# Altium footprint library Dual-In-Line Package.PcbLib: 149 footprints (part 7 of 10)
Each footprint in its own frame and in the unit in brackets; x right, y up, seen from the top. Pads: shape width x height; smd on the part's side, far side on the other; paste and mask are expansions set on the pad; w line width, h text height; cw(c..) or ccw(c..) is an arc to the next point about the centre after c.
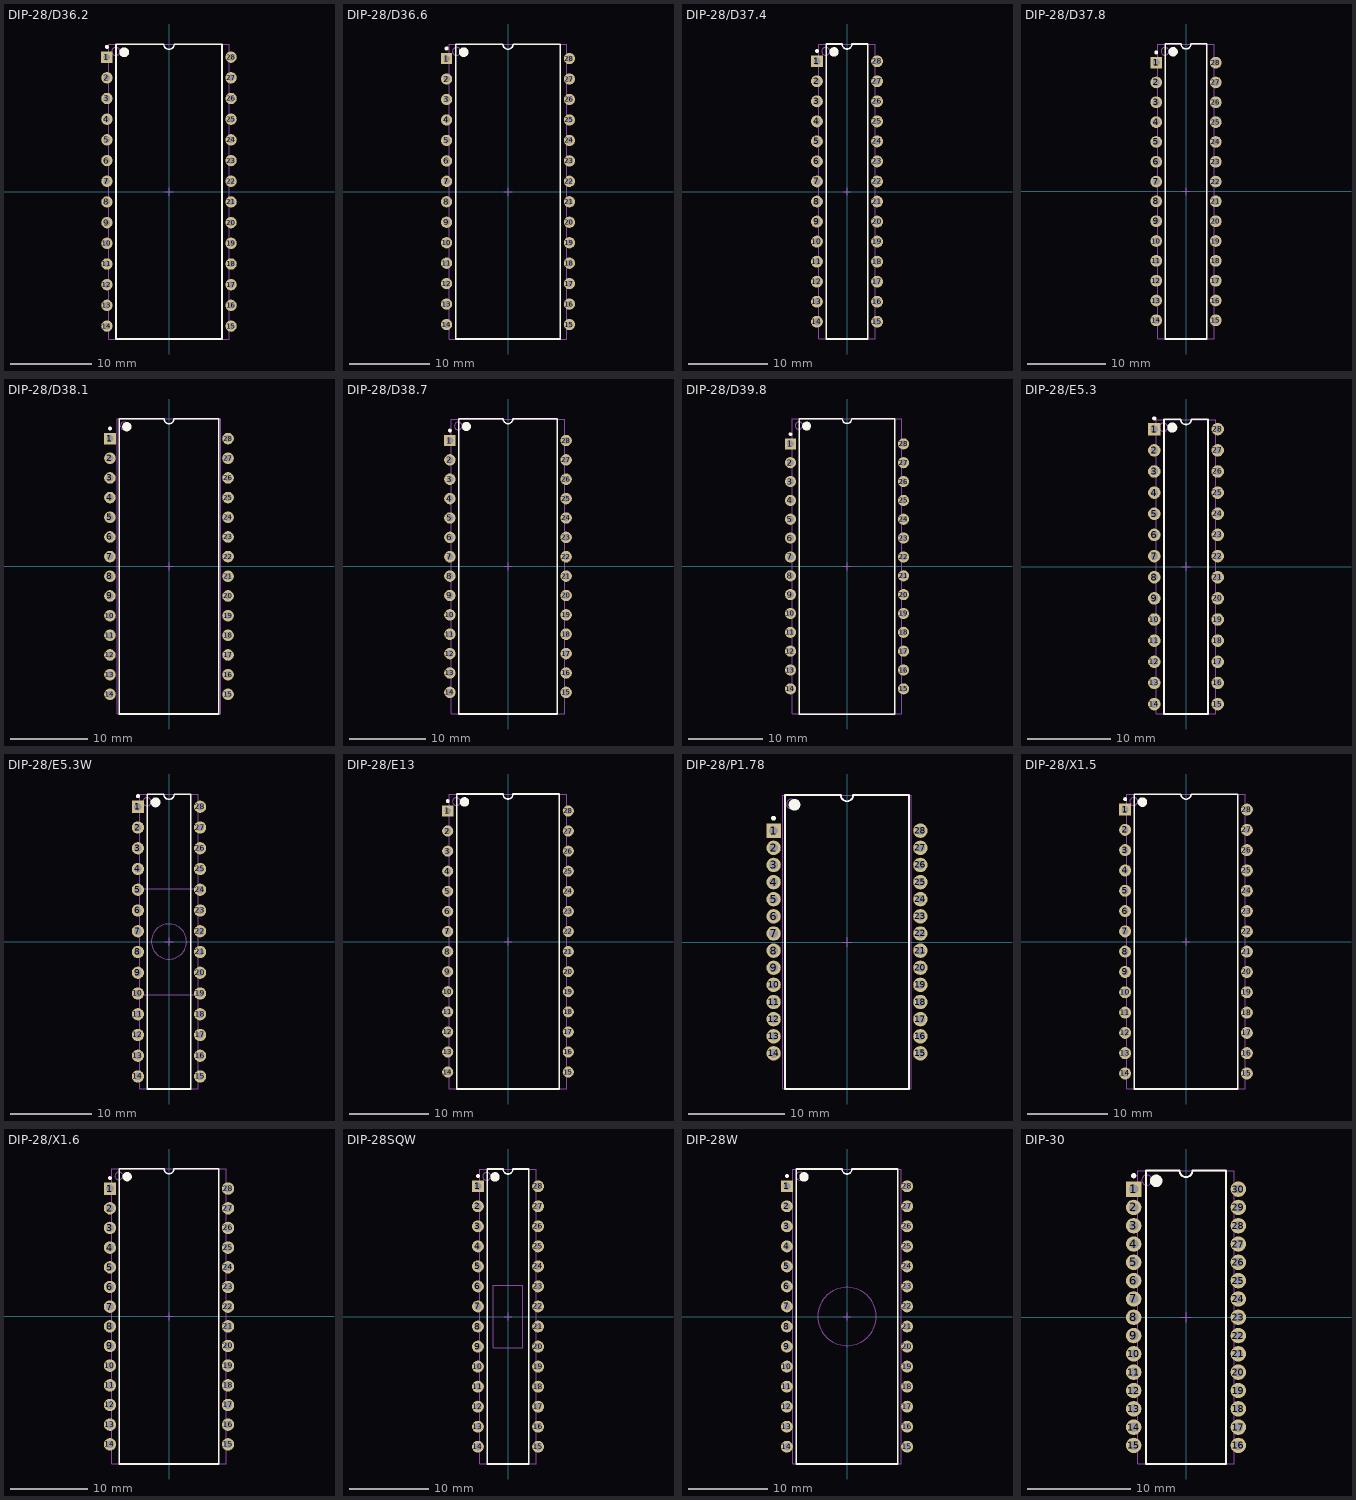
[diagram p6: the footprints below, top view; thin cyan lines are the x and y axes]

## DIP-28/D36.2 [mm] "DIP, 28-Pin, Row Spacing 15.24 mm, Pitch 2.54 mm"
height 4.5
pads (28):
  rect 1.4x1.4 hole 0.8: 1(-7.62,16.51)
  round 1.4 hole 0.8: 2(-7.62,13.97) 3(-7.62,11.43) 4(-7.62,8.89) 5(-7.62,6.35) 6(-7.62,3.81) 7(-7.62,1.27) 8(-7.62,-1.27) 9(-7.62,-3.81) 10(-7.62,-6.35) 11(-7.62,-8.89) 12(-7.62,-11.43) 13(-7.62,-13.97) 14(-7.62,-16.51) 15(7.62,-16.51) 16(7.62,-13.97) 17(7.62,-11.43) 18(7.62,-8.89) 19(7.62,-6.35) 20(7.62,-3.81) 21(7.62,-1.27) 22(7.62,1.27) 23(7.62,3.81) 24(7.62,6.35) 25(7.62,8.89) 26(7.62,11.43) 27(7.62,13.97) 28(7.62,16.51)
Top Overlay:
  circle w0.6: c-5.5,17.1 r0.3
  circle w0.25: c-7.62,17.76 r0.125
  lines w0.2: -6.5,-18.1 6.5,-18.1 6.5,18.1 0.635,18.1 cw(c0,18.1) -0.635,18.1 -6.5,18.1 -6.5,-18.1
Mechanical 13:
  circle w0.1: c-6.525,17.2 r0.5
  lines w0.1: -7.425,-18.1 7.425,-18.1 7.425,18.1 -7.425,18.1 -7.425,-18.1
Mechanical 15:
  lines w0.1: -0.5,0 0.5,0 ; 0,-0.5 0,0.5
3D body: height 4.5, standoff 0, extent -7.425,-18.1 7.425,18.1

## DIP-28/D36.6 [mm] "DIP, 28-Pin, Row Spacing 15.24 mm, Pitch 2.54 mm"
height 5.7
pads (28):
  rect 1.4x1.4 hole 0.8: 1(-7.62,16.51)
  round 1.4 hole 0.8: 2(-7.62,13.97) 3(-7.62,11.43) 4(-7.62,8.89) 5(-7.62,6.35) 6(-7.62,3.81) 7(-7.62,1.27) 8(-7.62,-1.27) 9(-7.62,-3.81) 10(-7.62,-6.35) 11(-7.62,-8.89) 12(-7.62,-11.43) 13(-7.62,-13.97) 14(-7.62,-16.51) 15(7.62,-16.51) 16(7.62,-13.97) 17(7.62,-11.43) 18(7.62,-8.89) 19(7.62,-6.35) 20(7.62,-3.81) 21(7.62,-1.27) 22(7.62,1.27) 23(7.62,3.81) 24(7.62,6.35) 25(7.62,8.89) 26(7.62,11.43) 27(7.62,13.97) 28(7.62,16.51)
Top Overlay:
  circle w0.25: c-7.62,17.76 r0.125
  circle w0.6: c-5.5,17.3 r0.3
  lines w0.2: -6.5,-18.3 -6.5,18.3 -0.635,18.3 ccw(c0,18.3) 0.635,18.3 6.5,18.3 6.5,-18.3 -6.5,-18.3
Mechanical 13:
  circle w0.1: c-6.4,17.4 r0.5
  lines w0.1: -7.3,-18.3 -7.3,18.3 7.3,18.3 7.3,-18.3 -7.3,-18.3
Mechanical 15:
  lines w0.1: -0.5,0 0.5,0 ; 0,-0.5 0,0.5
3D body: height 5.7, standoff 0, extent -7.3,-18.3 7.3,18.3

## DIP-28/D37.4 [mm] "28-Pin Ceramic Dual In-Line Package (CerDIP)"
height 5.08
pads (28):
  rect 1.5x1.5 hole 0.9: 1(-3.81,16.51)
  round 1.5 hole 0.9: 2(-3.81,13.97) 3(-3.81,11.43) 4(-3.81,8.89) 5(-3.81,6.35) 6(-3.81,3.81) 7(-3.81,1.27) 8(-3.81,-1.27) 9(-3.81,-3.81) 10(-3.81,-6.35) 11(-3.81,-8.89) 12(-3.81,-11.43) 13(-3.81,-13.97) 14(-3.81,-16.51) 15(3.81,-16.51) 16(3.81,-13.97) 17(3.81,-11.43) 18(3.81,-8.89) 19(3.81,-6.35) 20(3.81,-3.81) 21(3.81,-1.27) 22(3.81,1.27) 23(3.81,3.81) 24(3.81,6.35) 25(3.81,8.89) 26(3.81,11.43) 27(3.81,13.97) 28(3.81,16.51)
Top Overlay:
  circle w0.25: c-3.81,17.81 r0.125
  circle w0.6: c-1.65,17.7 r0.3
  lines w0.2: -2.65,-18.7 -2.65,18.7 -0.635,18.7 ccw(c0,18.7) 0.635,18.7 2.65,18.7 2.65,-18.7 -2.65,-18.7
Mechanical 13:
  circle w0.1: c-2.7,17.775 r0.5
  lines w0.1: -3.6,-18.675 -3.6,18.675 3.6,18.675 3.6,-18.675 -3.6,-18.675
Mechanical 15:
  lines w0.1: -0.5,0 0.5,0 ; 0,-0.5 0,0.5
3D body: height 5.08, standoff 0, extent -3.6,-18.675 3.6,18.675

## DIP-28/D37.8 [mm] "CerDIP, 28-Pin, Row Spacing 7.62 mm, Pitch 2.54 mm"
height 5.08
pads (28):
  rect 1.5x1.5 hole 0.9: 1(-3.81,16.51)
  round 1.5 hole 0.9: 2(-3.81,13.97) 3(-3.81,11.43) 4(-3.81,8.89) 5(-3.81,6.35) 6(-3.81,3.81) 7(-3.81,1.27) 8(-3.81,-1.27) 9(-3.81,-3.81) 10(-3.81,-6.35) 11(-3.81,-8.89) 12(-3.81,-11.43) 13(-3.81,-13.97) 14(-3.81,-16.51) 15(3.81,-16.51) 16(3.81,-13.97) 17(3.81,-11.43) 18(3.81,-8.89) 19(3.81,-6.35) 20(3.81,-3.81) 21(3.81,-1.27) 22(3.81,1.27) 23(3.81,3.81) 24(3.81,6.35) 25(3.81,8.89) 26(3.81,11.43) 27(3.81,13.97) 28(3.81,16.51)
Top Overlay:
  circle w0.25: c-3.81,17.81 r0.125
  circle w0.6: c-1.65,17.9 r0.3
  lines w0.2: -2.65,-18.9 -2.65,18.9 -0.635,18.9 ccw(c0,18.9) 0.635,18.9 2.65,18.9 2.65,-18.9 -2.65,-18.9
Mechanical 13:
  circle w0.1: c-2.7,17.95 r0.5
  lines w0.1: -3.6,-18.85 -3.6,18.85 3.6,18.85 3.6,-18.85 -3.6,-18.85
Mechanical 15:
  lines w0.1: -0.5,0 0.5,0 ; 0,-0.5 0,0.5
3D body: height 5.08, standoff 0, extent -3.6,-18.85 3.6,18.85

## DIP-28/D38.1 [mm] "DIP, 28-Pin, Row Spacing 15.24 mm, Pitch 2.54 mm"
height 5.08
pads (28):
  rect 1.5x1.5 hole 0.9: 1(-7.62,16.51)
  round 1.5 hole 0.9: 2(-7.62,13.97) 3(-7.62,11.43) 4(-7.62,8.89) 5(-7.62,6.35) 6(-7.62,3.81) 7(-7.62,1.27) 8(-7.62,-1.27) 9(-7.62,-3.81) 10(-7.62,-6.35) 11(-7.62,-8.89) 12(-7.62,-11.43) 13(-7.62,-13.97) 14(-7.62,-16.51) 15(7.62,-16.51) 16(7.62,-13.97) 17(7.62,-11.43) 18(7.62,-8.89) 19(7.62,-6.35) 20(7.62,-3.81) 21(7.62,-1.27) 22(7.62,1.27) 23(7.62,3.81) 24(7.62,6.35) 25(7.62,8.89) 26(7.62,11.43) 27(7.62,13.97) 28(7.62,16.51)
Top Overlay:
  circle w0.6: c-5.45,18.05 r0.3
  circle w0.25: c-7.62,17.81 r0.125
  lines w0.2: -6.45,-19.05 6.45,-19.05 6.45,19.05 0.635,19.05 cw(c0,19.05) -0.635,19.05 -6.45,19.05 -6.45,-19.05
Mechanical 13:
  circle w0.1: c-5.775,18.15 r0.5
  lines w0.1: -6.675,-19.05 6.675,-19.05 6.675,19.05 -6.675,19.05 -6.675,-19.05
Mechanical 15:
  lines w0.1: -0.5,0 0.5,0 ; 0,-0.5 0,0.5
3D body: height 5.08, standoff 0, extent -6.675,-19.05 6.675,19.05

## DIP-28/D38.7 [mm] "DIP, 28-Pin, Row Spacing 15.24 mm, Pitch 2.54 mm"
height 4.8
pads (28):
  rect 1.5x1.5 hole 0.9: 1(-7.62,16.51)
  round 1.5 hole 0.9: 2(-7.62,13.97) 3(-7.62,11.43) 4(-7.62,8.89) 5(-7.62,6.35) 6(-7.62,3.81) 7(-7.62,1.27) 8(-7.62,-1.27) 9(-7.62,-3.81) 10(-7.62,-6.35) 11(-7.62,-8.89) 12(-7.62,-11.43) 13(-7.62,-13.97) 14(-7.62,-16.51) 15(7.62,-16.51) 16(7.62,-13.97) 17(7.62,-11.43) 18(7.62,-8.89) 19(7.62,-6.35) 20(7.62,-3.81) 21(7.62,-1.27) 22(7.62,1.27) 23(7.62,3.81) 24(7.62,6.35) 25(7.62,8.89) 26(7.62,11.43) 27(7.62,13.97) 28(7.62,16.51)
Top Overlay:
  circle w0.6: c-5.45,18.35 r0.3
  circle w0.25: c-7.62,17.81 r0.125
  lines w0.2: -6.45,-19.35 6.45,-19.35 6.45,19.35 0.635,19.35 cw(c0,19.35) -0.635,19.35 -6.45,19.35 -6.45,-19.35
Mechanical 13:
  circle w0.1: c-6.525,18.4 r0.5
  lines w0.1: -7.425,-19.3 7.425,-19.3 7.425,19.3 -7.425,19.3 -7.425,-19.3
Mechanical 15:
  lines w0.1: -0.5,0 0.5,0 ; 0,-0.5 0,0.5
3D body: height 4.8, standoff 0, extent -7.425,-19.3 7.425,19.3

## DIP-28/D39.8 [mm] "DIP, 28-Pin, Row Spacing 15.24 mm, Pitch 2.54 mm"
height 6.35
pads (28):
  rect 1.5x1.5 hole 0.9: 1(-7.62,16.51)
  round 1.5 hole 0.9: 2(-7.62,13.97) 3(-7.62,11.43) 4(-7.62,8.89) 5(-7.62,6.35) 6(-7.62,3.81) 7(-7.62,1.27) 8(-7.62,-1.27) 9(-7.62,-3.81) 10(-7.62,-6.35) 11(-7.62,-8.89) 12(-7.62,-11.43) 13(-7.62,-13.97) 14(-7.62,-16.51) 15(7.62,-16.51) 16(7.62,-13.97) 17(7.62,-11.43) 18(7.62,-8.89) 19(7.62,-6.35) 20(7.62,-3.81) 21(7.62,-1.27) 22(7.62,1.27) 23(7.62,3.81) 24(7.62,6.35) 25(7.62,8.89) 26(7.62,11.43) 27(7.62,13.97) 28(7.62,16.51)
Top Overlay:
  circle w0.6: c-5.45,18.9 r0.3
  circle w0.25: c-7.62,17.81 r0.125
  lines w0.2: -6.45,-19.9 6.45,-19.9 6.45,19.9 0.635,19.9 cw(c0,19.9) -0.635,19.9 -6.45,19.9 -6.45,-19.9
Mechanical 13:
  circle w0.1: c-6.475,18.975 r0.5
  lines w0.1: -7.375,-19.875 7.375,-19.875 7.375,19.875 -7.375,19.875 -7.375,-19.875
Mechanical 15:
  lines w0.1: -0.5,0 0.5,0 ; 0,-0.5 0,0.5
3D body: height 6.35, standoff 0, extent -7.375,-19.875 7.375,19.875

## DIP-28/E5.3 [mm] "28-Pin Plastic Dual In-Line Package (PDIP)"
height 4.58
pads (28):
  rect 1.5x1.5 hole 0.9: 1(-3.81,16.51)
  round 1.5 hole 0.9: 2(-3.81,13.97) 3(-3.81,11.43) 4(-3.81,8.89) 5(-3.81,6.35) 6(-3.81,3.81) 7(-3.81,1.27) 8(-3.81,-1.27) 9(-3.81,-3.81) 10(-3.81,-6.35) 11(-3.81,-8.89) 12(-3.81,-11.43) 13(-3.81,-13.97) 14(-3.81,-16.51) 15(3.81,-16.51) 16(3.81,-13.97) 17(3.81,-11.43) 18(3.81,-8.89) 19(3.81,-6.35) 20(3.81,-3.81) 21(3.81,-1.27) 22(3.81,1.27) 23(3.81,3.81) 24(3.81,6.35) 25(3.81,8.89) 26(3.81,11.43) 27(3.81,13.97) 28(3.81,16.51)
Top Overlay:
  circle w0.25: c-3.81,17.81 r0.125
  circle w0.6: c-1.65,16.7 r0.3
  lines w0.2: -2.65,-17.7 -2.65,17.7 -0.635,17.7 ccw(c0,17.7) 0.635,17.7 2.65,17.7 2.65,-17.7 -2.65,-17.7
Mechanical 13:
  circle w0.1: c-2.7,16.75 r0.5
  lines w0.1: -3.6,-17.65 -3.6,17.65 3.6,17.65 3.6,-17.65 -3.6,-17.65
Mechanical 15:
  lines w0.1: -0.5,0 0.5,0 ; 0,-0.5 0,0.5
3D body: height 4.58, standoff 0, extent -3.6,-17.65 3.6,17.65

## DIP-28/E5.3W [mm] "DIP, 28-Leads, Row Spacing 7.62mm, Pitch 2.54mm, Body 35.56x7.49mm, Lid"
height 5.08
pads (28):
  rect 1.5x1.5 hole 0.9: 1(-3.81,16.51)
  round 1.5 hole 0.9: 2(-3.81,13.97) 3(-3.81,11.43) 4(-3.81,8.89) 5(-3.81,6.35) 6(-3.81,3.81) 7(-3.81,1.27) 8(-3.81,-1.27) 9(-3.81,-3.81) 10(-3.81,-6.35) 11(-3.81,-8.89) 12(-3.81,-11.43) 13(-3.81,-13.97) 14(-3.81,-16.51) 15(3.81,-16.51) 16(3.81,-13.97) 17(3.81,-11.43) 18(3.81,-8.89) 19(3.81,-6.35) 20(3.81,-3.81) 21(3.81,-1.27) 22(3.81,1.27) 23(3.81,3.81) 24(3.81,6.35) 25(3.81,8.89) 26(3.81,11.43) 27(3.81,13.97) 28(3.81,16.51)
Top Overlay:
  circle w0.6: c-1.65,17.05 r0.3
  circle w0.25: c-3.81,17.81 r0.125
  lines w0.2: -2.65,-18.05 2.65,-18.05 2.65,18.05 0.635,18.05 cw(c0,18.05) -0.635,18.05 -2.65,18.05 -2.65,-18.05
Mechanical 13:
  circle w0.1: c-2.7,17.125 r0.5
  circle w0.1: c0,0 r2.15
  lines w0.1: -3.6,-18.025 -3.6,18.025 3.6,18.025 3.6,-18.025 -3.6,-18.025 ; -3.6,-6.5 3.6,-6.5 3.6,6.5 -3.6,6.5 -3.6,-6.5
Mechanical 15:
  lines w0.1: -0.5,0 0.5,0 ; 0,-0.5 0,0.5
3D body: height 5.08, standoff 3.94, extent -3.599,-6.499 3.599,6.499
3D body: height 3.94, standoff 0.64, extent -3.599,-18.024 3.599,18.024

## DIP-28/E13 [mm] "DIP, 28-Pin, Row Spacing 15.24 mm, Pitch 2.54 mm"
height 7.75
pads (28):
  rect 1.4x1.4 hole 0.8: 1(-7.62,16.51)
  round 1.4 hole 0.8: 2(-7.62,13.97) 3(-7.62,11.43) 4(-7.62,8.89) 5(-7.62,6.35) 6(-7.62,3.81) 7(-7.62,1.27) 8(-7.62,-1.27) 9(-7.62,-3.81) 10(-7.62,-6.35) 11(-7.62,-8.89) 12(-7.62,-11.43) 13(-7.62,-13.97) 14(-7.62,-16.51) 15(7.62,-16.51) 16(7.62,-13.97) 17(7.62,-11.43) 18(7.62,-8.89) 19(7.62,-6.35) 20(7.62,-3.81) 21(7.62,-1.27) 22(7.62,1.27) 23(7.62,3.81) 24(7.62,6.35) 25(7.62,8.89) 26(7.62,11.43) 27(7.62,13.97) 28(7.62,16.51)
Top Overlay:
  circle w0.25: c-7.62,17.76 r0.125
  circle w0.6: c-5.5,17.65 r0.3
  lines w0.2: -6.5,-18.65 -6.5,18.65 -0.635,18.65 ccw(c0,18.65) 0.635,18.65 6.5,18.65 6.5,-18.65 -6.5,-18.65
Mechanical 13:
  circle w0.1: c-6.525,17.7 r0.5
  lines w0.1: -7.425,-18.6 -7.425,18.6 7.425,18.6 7.425,-18.6 -7.425,-18.6
Mechanical 15:
  lines w0.1: -0.5,0 0.5,0 ; 0,-0.5 0,0.5
3D body: height 7.75, standoff 0, extent -7.425,-18.6 7.425,18.6

## DIP-28/P1.78 [mm] "DIP, 28-Pin, Row Spacing 15.24 mm, Pitch 1.778 mm"
height 5.08
pads (28):
  rect 1.5x1.5 hole 0.9: 1(-7.62,11.557)
  round 1.5 hole 0.9: 2(-7.62,9.779) 3(-7.62,8.001) 4(-7.62,6.223) 5(-7.62,4.445) 6(-7.62,2.667) 7(-7.62,0.889) 8(-7.62,-0.889) 9(-7.62,-2.667) 10(-7.62,-4.445) 11(-7.62,-6.223) 12(-7.62,-8.001) 13(-7.62,-9.779) 14(-7.62,-11.557) 15(7.62,-11.557) 16(7.62,-9.779) 17(7.62,-8.001) 18(7.62,-6.223) 19(7.62,-4.445) 20(7.62,-2.667) 21(7.62,-0.889) 22(7.62,0.889) 23(7.62,2.667) 24(7.62,4.445) 25(7.62,6.223) 26(7.62,8.001) 27(7.62,9.779) 28(7.62,11.557)
Top Overlay:
  circle w0.25: c-7.62,12.857 r0.125
  circle w0.6: c-5.45,14.25 r0.3
  lines w0.2: -6.45,-15.25 -6.45,15.25 -0.635,15.25 ccw(c0,15.25) 0.635,15.25 6.45,15.25 6.45,-15.25 -6.45,-15.25
Mechanical 13:
  circle w0.1: c-5.775,14.325 r0.5
  lines w0.1: -6.675,-15.225 -6.675,15.225 6.675,15.225 6.675,-15.225 -6.675,-15.225
Mechanical 15:
  lines w0.1: -0.5,0 0.5,0 ; 0,-0.5 0,0.5
3D body: height 5.08, standoff 0, extent -6.675,-15.225 6.675,15.225

## DIP-28/X1.5 [mm] "DIP, 28-Pin, Row Spacing 15.24 mm, Pitch 2.54 mm"
height 5.72
pads (28):
  rect 1.5x1.5 hole 0.9: 1(-7.62,16.51)
  round 1.5 hole 0.9: 2(-7.62,13.97) 3(-7.62,11.43) 4(-7.62,8.89) 5(-7.62,6.35) 6(-7.62,3.81) 7(-7.62,1.27) 8(-7.62,-1.27) 9(-7.62,-3.81) 10(-7.62,-6.35) 11(-7.62,-8.89) 12(-7.62,-11.43) 13(-7.62,-13.97) 14(-7.62,-16.51) 15(7.62,-16.51) 16(7.62,-13.97) 17(7.62,-11.43) 18(7.62,-8.89) 19(7.62,-6.35) 20(7.62,-3.81) 21(7.62,-1.27) 22(7.62,1.27) 23(7.62,3.81) 24(7.62,6.35) 25(7.62,8.89) 26(7.62,11.43) 27(7.62,13.97) 28(7.62,16.51)
Top Overlay:
  circle w0.25: c-7.62,17.81 r0.125
  circle w0.6: c-5.45,17.45 r0.3
  lines w0.2: -6.45,-18.45 -6.45,18.45 -0.635,18.45 ccw(c0,18.45) 0.635,18.45 6.45,18.45 6.45,-18.45 -6.45,-18.45
Mechanical 13:
  circle w0.1: c-6.525,17.525 r0.5
  lines w0.1: -7.425,-18.425 -7.425,18.425 7.425,18.425 7.425,-18.425 -7.425,-18.425
Mechanical 15:
  lines w0.1: -0.5,0 0.5,0 ; 0,-0.5 0,0.5
3D body: height 5.72, standoff 0, extent -7.425,-18.425 7.425,18.425

## DIP-28/X1.6 [mm] "DIP, 28-Pin, Row Spacing 15.24 mm, Pitch 2.54 mm"
height 5.89
pads (28):
  rect 1.6x1.6 hole 1: 1(-7.62,16.51)
  round 1.6 hole 1: 2(-7.62,13.97) 3(-7.62,11.43) 4(-7.62,8.89) 5(-7.62,6.35) 6(-7.62,3.81) 7(-7.62,1.27) 8(-7.62,-1.27) 9(-7.62,-3.81) 10(-7.62,-6.35) 11(-7.62,-8.89) 12(-7.62,-11.43) 13(-7.62,-13.97) 14(-7.62,-16.51) 15(7.62,-16.51) 16(7.62,-13.97) 17(7.62,-11.43) 18(7.62,-8.89) 19(7.62,-6.35) 20(7.62,-3.81) 21(7.62,-1.27) 22(7.62,1.27) 23(7.62,3.81) 24(7.62,6.35) 25(7.62,8.89) 26(7.62,11.43) 27(7.62,13.97) 28(7.62,16.51)
Top Overlay:
  circle w0.6: c-5.4,18.05 r0.3
  circle w0.25: c-7.62,17.86 r0.125
  lines w0.2: -6.4,-19.05 6.4,-19.05 6.4,19.05 0.635,19.05 cw(c0,19.05) -0.635,19.05 -6.4,19.05 -6.4,-19.05
Mechanical 13:
  circle w0.1: c-6.475,18.15 r0.5
  lines w0.1: -7.375,-19.05 7.375,-19.05 7.375,19.05 -7.375,19.05 -7.375,-19.05
Mechanical 15:
  lines w0.1: -0.5,0 0.5,0 ; 0,-0.5 0,0.5
3D body: height 5.89, standoff 0, extent -7.375,-19.05 7.375,19.05

## DIP-28SQW [mm] "DIP, 28-Leads, Row Spacing 7.62mm, Pitch 2.54mm, Body 37x7.3mm, Window"
height 5.08
pads (28):
  rect 1.5x1.5 hole 0.9: 1(-3.81,16.51)
  round 1.5 hole 0.9: 2(-3.81,13.97) 3(-3.81,11.43) 4(-3.81,8.89) 5(-3.81,6.35) 6(-3.81,3.81) 7(-3.81,1.27) 8(-3.81,-1.27) 9(-3.81,-3.81) 10(-3.81,-6.35) 11(-3.81,-8.89) 12(-3.81,-11.43) 13(-3.81,-13.97) 14(-3.81,-16.51) 15(3.81,-16.51) 16(3.81,-13.97) 17(3.81,-11.43) 18(3.81,-8.89) 19(3.81,-6.35) 20(3.81,-3.81) 21(3.81,-1.27) 22(3.81,1.27) 23(3.81,3.81) 24(3.81,6.35) 25(3.81,8.89) 26(3.81,11.43) 27(3.81,13.97) 28(3.81,16.51)
Top Overlay:
  circle w0.6: c-1.65,17.7 r0.3
  circle w0.25: c-3.81,17.81 r0.125
  lines w0.2: -2.65,-18.7 2.65,-18.7 2.65,18.7 0.635,18.7 cw(c0,18.7) -0.635,18.7 -2.65,18.7 -2.65,-18.7
Mechanical 13:
  circle w0.1: c-2.7,17.775 r0.5
  lines w0.1: -3.6,-18.675 3.6,-18.675 3.6,18.675 -3.6,18.675 -3.6,-18.675 ; -1.9,-3.95 1.9,-3.95 1.9,3.95 -1.9,3.95 -1.9,-3.95
Mechanical 15:
  lines w0.1: -0.5,0 0.5,0 ; 0,-0.5 0,0.5
3D body: height 5.08, standoff 0.38, extent -3.599,-18.674 3.599,18.674

## DIP-28W [mm] "DIP, 28-Leads, Row Spacing 15.24mm, Pitch 2.54mm, Body 37x13.3mm, Window"
height 5.715
pads (28):
  rect 1.5x1.5 hole 0.9: 1(-7.62,16.51)
  round 1.5 hole 0.9: 2(-7.62,13.97) 3(-7.62,11.43) 4(-7.62,8.89) 5(-7.62,6.35) 6(-7.62,3.81) 7(-7.62,1.27) 8(-7.62,-1.27) 9(-7.62,-3.81) 10(-7.62,-6.35) 11(-7.62,-8.89) 12(-7.62,-11.43) 13(-7.62,-13.97) 14(-7.62,-16.51) 15(7.62,-16.51) 16(7.62,-13.97) 17(7.62,-11.43) 18(7.62,-8.89) 19(7.62,-6.35) 20(7.62,-3.81) 21(7.62,-1.27) 22(7.62,1.27) 23(7.62,3.81) 24(7.62,6.35) 25(7.62,8.89) 26(7.62,11.43) 27(7.62,13.97) 28(7.62,16.51)
Top Overlay:
  circle w0.25: c-7.62,17.81 r0.125
  circle w0.6: c-5.45,17.7 r0.3
  lines w0.2: -6.45,-18.7 -6.45,18.7 -0.635,18.7 ccw(c0,18.7) 0.635,18.7 6.45,18.7 6.45,-18.7 -6.45,-18.7
Mechanical 13:
  circle w0.1: c-5.95,17.798 r0.5
  circle w0.1: c0,0 r3.7
  lines w0.1: -6.85,-18.675 -6.85,18.675 6.85,18.675 6.85,-18.675 -6.85,-18.675
Mechanical 15:
  lines w0.1: -0.5,0 0.5,0 ; 0,-0.5 0,0.5
3D body: height 5.71, standoff 0.38, extent -6.849,-18.674 6.849,18.674

## DIP-30 [mm] "DIP, Plastic, 30-Pin, Row Spacing 10.16 mm, Pitch 1.778 mm"
height 5.08
pads (30):
  rect 1.5x1.5 hole 0.9: 1(-5.08,12.446)
  round 1.5 hole 0.9: 2(-5.08,10.668) 3(-5.08,8.89) 4(-5.08,7.112) 5(-5.08,5.334) 6(-5.08,3.556) 7(-5.08,1.778) 8(-5.08,0) 9(-5.08,-1.778) 10(-5.08,-3.556) 11(-5.08,-5.334) 12(-5.08,-7.112) 13(-5.08,-8.89) 14(-5.08,-10.668) 15(-5.08,-12.446) 16(5.08,-12.446) 17(5.08,-10.668) 18(5.08,-8.89) 19(5.08,-7.112) 20(5.08,-5.334) 21(5.08,-3.556) 22(5.08,-1.778) 23(5.08,0) 24(5.08,1.778) 25(5.08,3.556) 26(5.08,5.334) 27(5.08,7.112) 28(5.08,8.89) 29(5.08,10.668) 30(5.08,12.446)
Top Overlay:
  circle w0.6: c-2.9,13.25 r0.3
  circle w0.25: c-5.08,13.746 r0.125
  lines w0.2: -3.9,-14.25 3.9,-14.25 3.9,14.25 0.635,14.25 cw(c0,14.25) -0.635,14.25 -3.9,14.25 -3.9,-14.25
Mechanical 13:
  circle w0.1: c-3.8,13.325 r0.5
  lines w0.1: -4.7,-14.225 4.7,-14.225 4.7,14.225 -4.7,14.225 -4.7,-14.225
Mechanical 15:
  lines w0.1: -0.5,0 0.5,0 ; 0,-0.5 0,0.5
3D body: height 5.08, standoff 0, extent -4.7,-14.225 4.7,14.225